# Altium footprint library JST_S4B-XH-SM4-TB.PcbLib: 1 footprints
Each footprint in its own frame and in the unit in brackets; x right, y up, seen from the top. Pads: shape width x height; smd on the part's side, far side on the other; paste and mask are expansions set on the pad; w line width, h text height; cw(c..) or ccw(c..) is an arc to the next point about the centre after c.
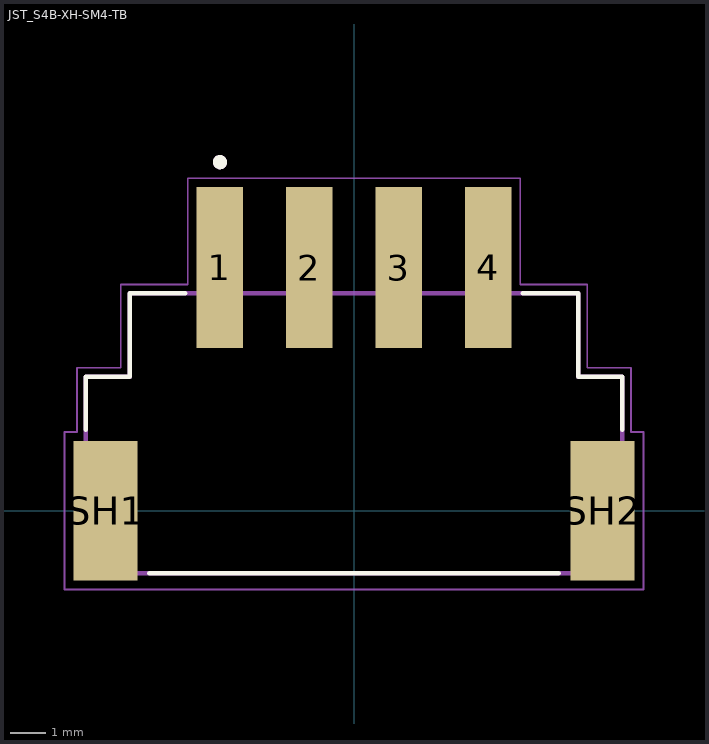
[diagram p0: the footprint, top view; thin cyan lines are the x and y axes]

## JST_S4B-XH-SM4-TB [mm]
height 6
pads (6):
  rect 1.3x4.5 smd: 1(-3.75,6.8) 2(-1.25,6.8) 3(1.25,6.8) 4(3.75,6.8)
  rect 1.8x3.9 smd: SH1(-6.95,0) SH2(6.95,0)
Top Overlay:
  circle w0.2: c-3.75,9.75 r0.1
  lines w0.127: -7.5,2.27 -7.5,3.75 -6.275,3.75 -6.275,6.08 -4.72,6.08 ; -5.73,-1.75 5.73,-1.75 ; 4.72,6.08 6.275,6.08 6.275,3.75 7.5,3.75 7.5,2.27
Assembly Top:
  circle w0.2: c-3.75,9.75 r0.1
  lines w0.127: -7.5,-1.75 -7.5,3.75 -6.275,3.75 -6.275,6.08 6.275,6.08 6.275,3.75 7.5,3.75 7.5,-1.75 -7.5,-1.75
Courtyard Top:
  lines w0.05: -8.1,-2.2 8.1,-2.2 8.1,2.2 7.75,2.2 7.75,4 6.525,4 6.525,6.33 4.65,6.33 4.65,9.3 -4.65,9.3 -4.65,6.33 -6.525,6.33 -6.525,4 -7.75,4 -7.75,2.2 -8.1,2.2 -8.1,-2.2
3D body "step_temp.STEP": height 6.12, standoff 0, extent -7.5,-1.95 7.5,8.05